# EAGLE library part ESP-WROVER (library Eagle_CAD_parts)
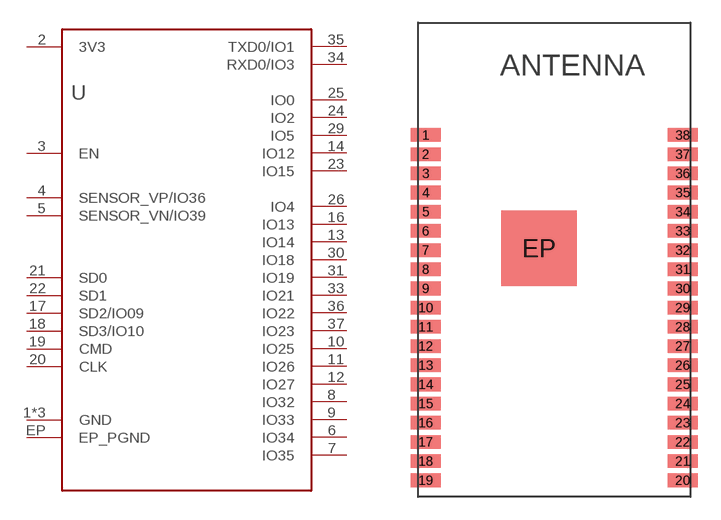
[diagram p24: symbol with the pads of ESP-WROVER-(I)B; footprint ESP-WROVER-(I)B]

Designator prefix U

## ESP-WROVER-IB_16MB (MANUFACTURER_PART_NUMBER: ESP32-WROVER-IB (16MB); MOUSER_PART_NUMBER: 356-ESP32WROIB(16MB))  [ESP-WROVER-(I)B]
1  GND  pwr
2  3V3  pwr
3  EN  in
4  SENSOR_VP/IO36  in
5  SENSOR_VN/IO39  in
6  IO34  in
7  IO35  in
8  IO32
9  IO33
10  IO25
11  IO26
12  IO27
13  IO14
14  IO12
15  GND  pwr
16  IO13
17  SD2/IO09
18  SD3/IO10
19  CMD
20  CLK
21  SD0
22  SD1
23  IO15
24  IO2
25  IO0
26  IO4
29  IO5
30  IO18
31  IO19
33  IO21
34  RXD0/IO3
35  TXD0/IO1
36  IO22
37  IO23
38  GND  pwr
EP  EP_PGND  pwr

## ESP-WROVER-IB_8MB (MANUFACTURER_PART_NUMBER: ESP32-WROVER-IB (8MB); MOUSER_PART_NUMBER: 356-ESP32-WROIB(8MB))  [ESP-WROVER-(I)B]

## ESP-WROVER-IB_4MB (MANUFACTURER_PART_NUMBER: ESP32-WROVER-IB; MOUSER_PART_NUMBER: 356-ESP32-WROVER-IB)  [ESP-WROVER-(I)B]

## ESP-WROVER-B_16MB (MANUFACTURER_PART_NUMBER: ESP32-WROVER-B (16MB); MOUSER_PART_NUMBER: 356-ESP32-WROB(16MB))  [ESP-WROVER-(I)B]
Pads as for ESP-WROVER-(I)B

## Footprint ESP-WROVER-(I)B (pad centres in mm)
smd 2 x 0.9: 1 -8,8.26; 2 -8,6.99; 3 -8,5.72; 4 -8,4.45; 5 -8,3.18; 6 -8,1.91; 7 -8,0.64; 8 -8,-0.63; 9 -8,-1.9; 10 -8,-3.17; 11 -8,-4.44; 12 -8,-5.71; 13 -8,-6.98; 14 -8,-8.25; 15 -8,-9.52; 16 -8,-10.79; 17 -8,-12.06; 18 -8,-13.33; 19 -8,-14.6; 20 9,-14.6; 21 9,-13.33; 22 9,-12.06; 23 9,-10.79; 24 9,-9.52; 25 9,-8.25; 26 9,-6.98; 27 9,-5.71; 28 9,-4.44; 29 9,-3.17; 30 9,-1.9; 31 9,-0.63; 32 9,0.64; 33 9,1.91; 34 9,3.18; 35 9,4.45; 36 9,5.72; 37 9,6.99; 38 9,8.26
smd 5 x 5: EP -0.5,0.76